# Altium schematic symbol library connector_2pin.SchLib: 1 symbol
Pins are listed as number, name and electrical type; pins without a type are passive.

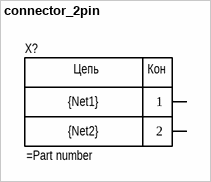
[diagram p0: symbol connector_2pin]

## connector_2pin
designator X?  Net2: {Net2}  Net1: {Net1}
pins: 1, 2
text: Цепь; Кон